# Altium schematic symbol library CAPACITORS.SchLib: 5 symbols
Pins are listed as number, name and electrical type; pins without a type are passive.

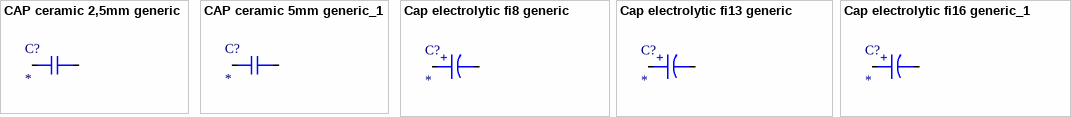
[diagram p0: symbols CAP ceramic 2,5mm generic to Cap electrolytic fi16 generic_1]

## CAP ceramic 2,5mm generic
designator C?
Capacitance: *; Voltage rating: *
footprint Capacitor THT 2,54mm - duplicate
pins: 1, 2

## CAP ceramic 5mm generic_1
designator C?
Capacitance: *; Voltage rating: *
footprint Capacitor THT 5mm
pins: 1, 2

## Cap electrolytic fi8 generic
designator C?
Capacitance: *; Voltage rating: *
footprint Capacitor electrolytic tht fi8
pins: 1, 2
text: +

## Cap electrolytic fi13 generic
designator C?
Capacitance: *; Voltage rating: *
footprint Capacitor Electrolytic THT fi13
pins: 1, 2
text: +

## Cap electrolytic fi16 generic_1
designator C?
Capacitance: *; Voltage rating: *
footprint Capacitor electrolytic tht fi16x40
pins: 1, 2
text: +